# EAGLE library part 74*138 (library U-7400)
Inverting Logic 3- to 8-Line Decoder/Demultiplexer see 74238 for non-Inverting
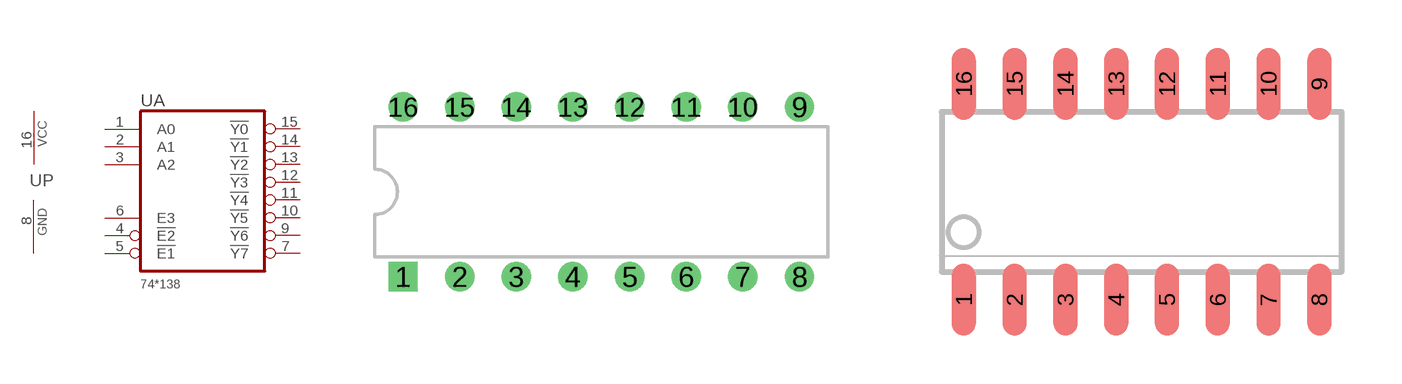
[diagram p49: symbol with the pads of 16DIP; footprints 16DIP, 16SOIC]

Designator prefix U; gates A=74138 P=PWRN

## 74138N  [16DIP]
1  A:A0  in
2  A:A1  in
3  A:A2  in
4  A:!E2  in
5  A:!E1  in
6  A:E3  in
7  A:!Y7  out
8  P:GND  pwr
9  A:!Y6  out
10  A:!Y5  out
11  A:!Y4  out
12  A:!Y3  out
13  A:!Y2  out
14  A:!Y1  out
15  A:!Y0  out
16  P:VCC  sup

## 74138D  [16SOIC]
Pads as for 16DIP

## Footprint 16DIP (pad centres in mm)
16 position Dual In-line Package
drill 0.813 square: 1 -8.89,-3.81
drill 0.813: 2 -6.35,-3.81; 3 -3.81,-3.81; 4 -1.27,-3.81; 5 1.27,-3.81; 6 3.81,-3.81; 7 6.35,-3.81; 8 8.89,-3.81; 9 8.89,3.81; 10 6.35,3.81; 11 3.81,3.81; 12 1.27,3.81; 13 -1.27,3.81; 14 -3.81,3.81; 15 -6.35,3.81; 16 -8.89,3.81

## Footprint 16SOIC (pad centres in mm)
Small Outline (SO/SOIC) package 1.27mm [50 mil] pitch, 4mm wide body, 6.2mm wide pin-pin, 10mm long e.g. 74HC151 [TI,SN74HC151D] LOGIC 8TO1 MUX 16SOIC
smd 0.6 x 1.8: 1 -4.445,-2.7; 2 -3.175,-2.7; 3 -1.905,-2.7; 4 -0.635,-2.7; 5 0.635,-2.7; 6 1.905,-2.7; 7 3.175,-2.7; 8 4.445,-2.7; 9 4.445,2.7; 10 3.175,2.7; 11 1.905,2.7; 12 0.635,2.7; 13 -0.635,2.7; 14 -1.905,2.7; 15 -3.175,2.7; 16 -4.445,2.7